# Altium integrated library Header_2_Pin.IntLib: 1 symbol
Pins are listed as number, name and electrical type; pins without a type are passive.

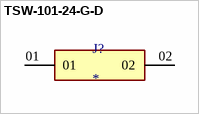
[diagram p0: symbol TSW-101-24-G-D]

## TSW-101-24-G-D
designator J?
MP: TSW-101-24-G-D; Package: None; Price: None; Value: *; Availability: Unavailable
footprint SAMTEC_TSW-101-24-G-D
pins: 01, 02